# Altium footprint library CAP 0402 50V.PcbLib: 1 footprints
Each footprint in its own frame and in the unit in brackets; x right, y up, seen from the top. Pads: shape width x height; smd on the part's side, far side on the other; paste and mask are expansions set on the pad; w line width, h text height; cw(c..) or ccw(c..) is an arc to the next point about the centre after c.
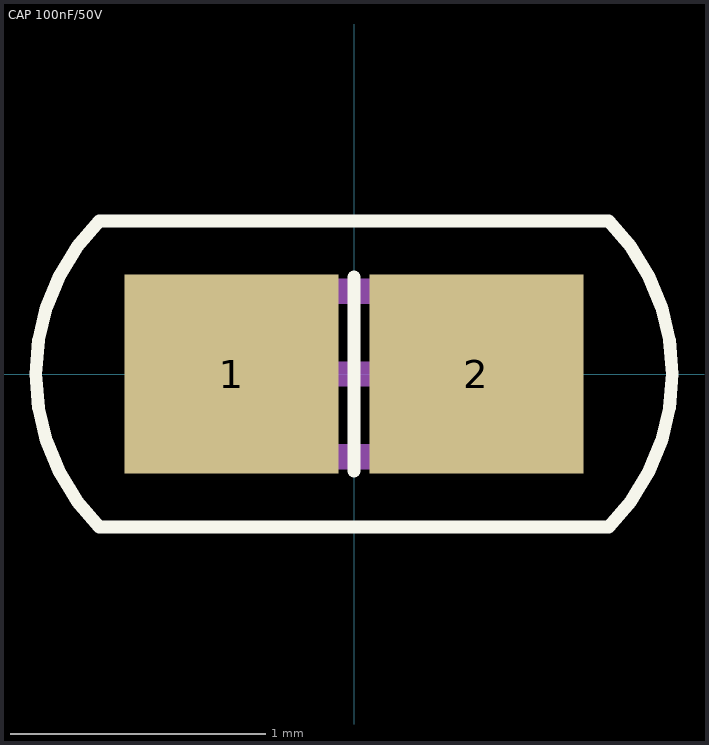
[diagram p0: the footprint, top view; thin cyan lines are the x and y axes]

## CAP 100nF/50V [mm] "0.1µF ±10% 50V Ceramic Capacitor X5R 0402 (1005 Metric)"
height 0.5
pads (2):
  rect 0.84x0.78 smd: 1(-0.48,0) 2(0.48,0)
Top Overlay:
  lines w0.05: 0,-0.381 0,0.381 ; -1,-0.6 cw(c-0.4,0) -1,0.6 1,0.6 cw(c0.4,0) 1,-0.6 -1,-0.6
Mechanical 13:
  lines w0.1: -0.575,-0.325 0.575,-0.325 0.575,0.325 -0.575,0.325 -0.575,-0.325
Mechanical 15:
  lines w0.1: -0.325,0 0.325,0
3D body "User Library-Capacitor 0402.step": height 0.51, standoff 0.01, extent -0.5,-0.25 0.5,0.25